# Altium footprint library SparkFun-Sensors.PCBLIB: 114 footprints (part 4 of 8)
Each footprint in its own frame and in the unit in brackets; x right, y up, seen from the top. Pads: shape width x height; smd on the part's side, far side on the other; paste and mask are expansions set on the pad; w line width, h text height; cw(c..) or ccw(c..) is an arc to the next point about the centre after c.
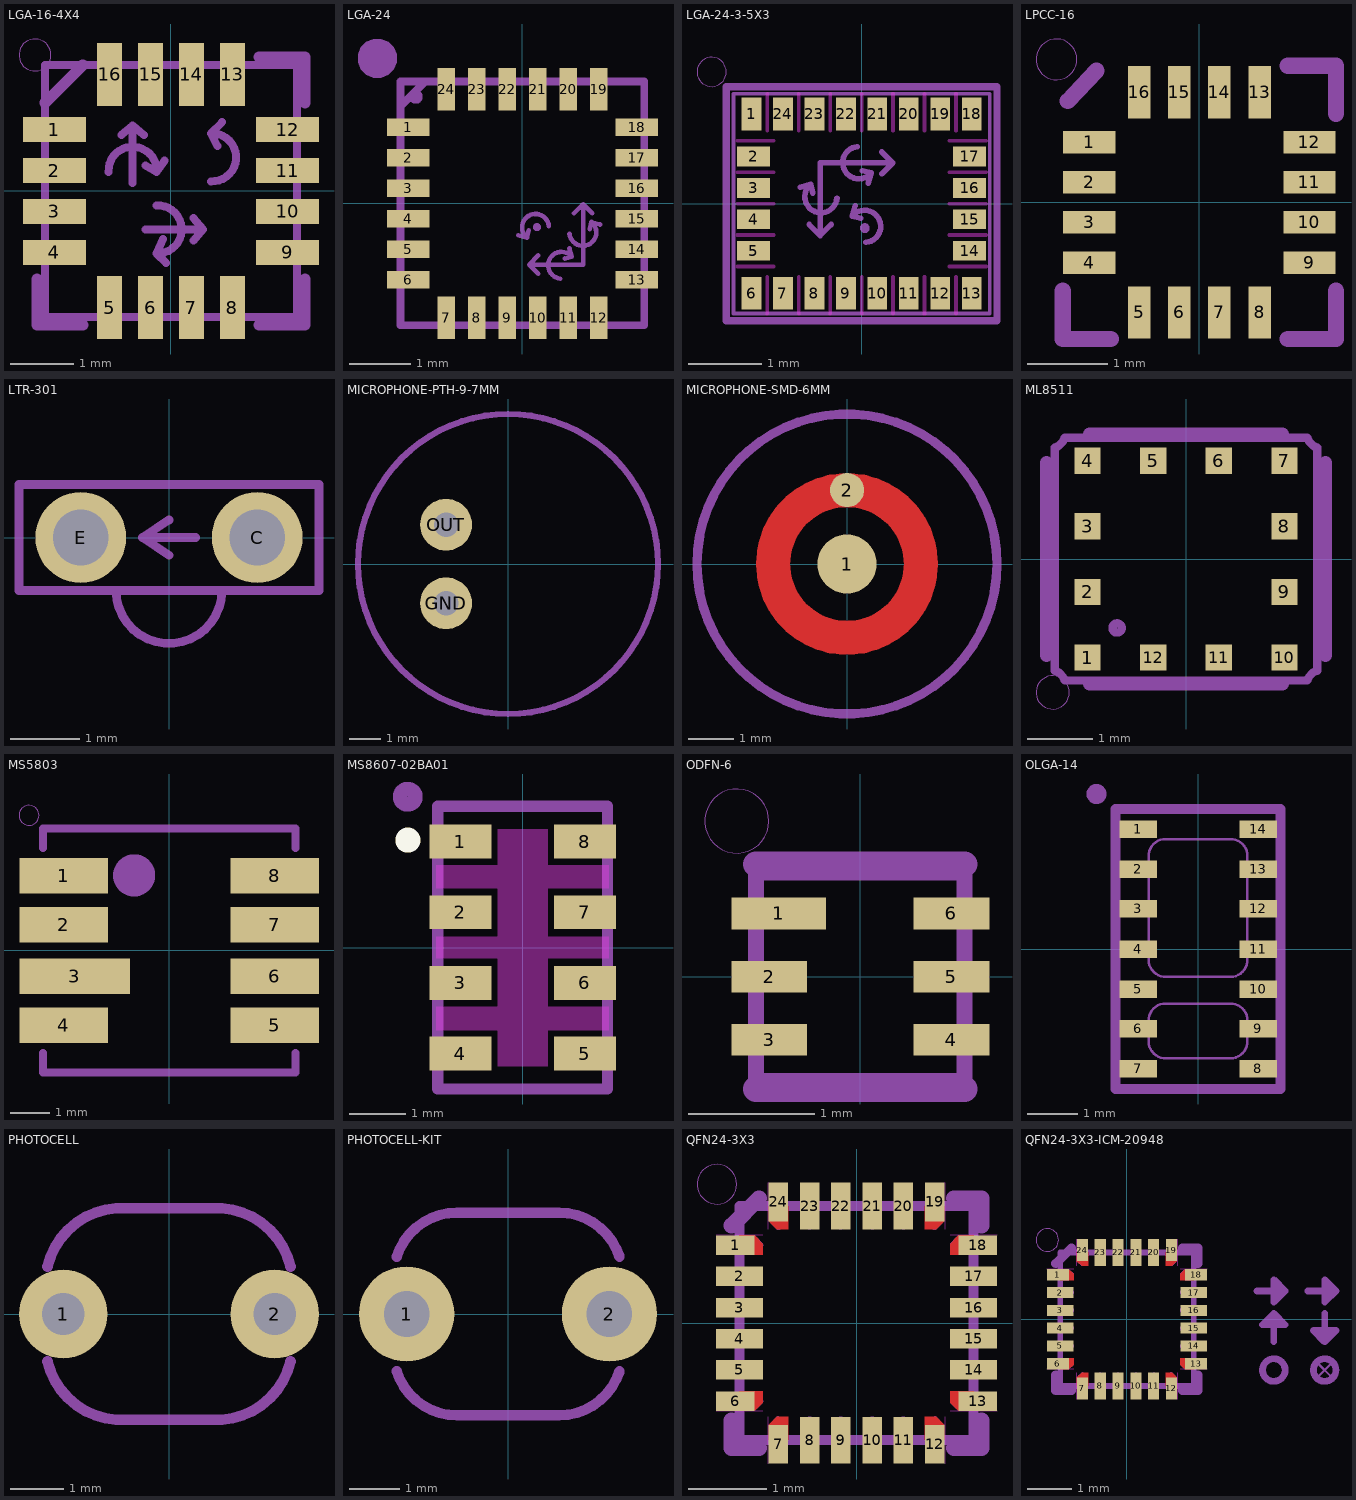
[diagram p3: the footprints below, top view; thin cyan lines are the x and y axes]

## LGA-16-4X4 [mm]
pads (16):
  rect 1x0.4 smd: 1(-1.85,0.975) 2(-1.85,0.325) 3(-1.85,-0.325) 4(-1.85,-0.975) 9(1.85,-0.975) 10(1.85,-0.325) 11(1.85,0.325) 12(1.85,0.975)
  rect 0.4x1 smd: 5(-0.975,-1.85) 6(-0.325,-1.85) 7(0.325,-1.85) 8(0.975,-1.85) 13(0.975,1.85) 14(0.325,1.85) 15(-0.325,1.85) 16(-0.975,1.85)
tDocu:
  region: -1.9,0.175 -1.9,0.475 -1.5,0.475 -1.5,0.175
  region: -1.9,-0.475 -1.9,-0.175 -1.5,-0.175 -1.5,-0.475
  region: -1.9,-1.125 -1.9,-0.825 -1.5,-0.825 -1.5,-1.125
  region: -1.9,0.825 -1.9,1.125 -1.5,1.125 -1.5,0.825
  region: -0.175,-1.9 -0.475,-1.9 -0.475,-1.5 -0.175,-1.5
  region: 0.475,-1.9 0.175,-1.9 0.175,-1.5 0.475,-1.5
  region: 1.125,-1.9 0.825,-1.9 0.825,-1.5 1.125,-1.5
  region: -0.825,-1.9 -1.125,-1.9 -1.125,-1.5 -0.825,-1.5
  region: 1.9,-0.175 1.9,-0.475 1.5,-0.475 1.5,-0.175
  region: 1.9,0.475 1.9,0.175 1.5,0.175 1.5,0.475
  region: 1.9,1.125 1.9,0.825 1.5,0.825 1.5,1.125
  region: 1.9,-0.825 1.9,-1.125 1.5,-1.125 1.5,-0.825
  region: 0.175,1.9 0.475,1.9 0.475,1.5 0.175,1.5
  region: -0.475,1.9 -0.175,1.9 -0.175,1.5 -0.475,1.5
  region: -1.125,1.9 -0.825,1.9 -0.825,1.5 -1.125,1.5
  region: 0.825,1.9 1.125,1.9 1.125,1.5 0.825,1.5
  lines w0.127: -0.991,0.305 cw(c-0.61,0.323) -0.229,0.305 ; -0.787,0.889 -0.61,1.041 ; -0.61,0.127 -0.61,1.041 ; -0.432,0.889 -0.61,1.041 ; -0.406,-0.61 0.508,-0.61 ; -0.406,0.406 -0.229,0.305 ; -0.229,-0.229 cw(c-0.211,-0.61) -0.229,-0.991 ; -0.127,-0.762 -0.229,-0.991 ; -0.102,0.483 -0.229,0.305 ; -0.076,-1.143 -0.229,-0.991 ; 0.356,-0.787 0.508,-0.61 ; 0.356,-0.432 0.508,-0.61 ; 0.635,0.152 ccw(c0.653,0.533) 0.635,0.914 ; 0.737,0.711 0.635,0.914 ; 0.813,1.092 0.635,0.914 ; -2,-2 2,-2 2,2 -2,2 -2,-2
  text "Z" at 0.33,0.33 h0.63
  text "Y" at -0.356,0.711 h0.63
  text "X" at -0.762,-0.813 h0.63
tPlace:
  circle w0: c-2.159,2.159 r0.254
  lines w0.178: -2.127,-1.4 -2.127,-2.127 -1.4,-2.127 ; -2,1.4 -1.4,2 ; 1.4,-2.127 2.127,-2.127 2.127,-1.4 ; 1.4,2.127 2.127,2.127 2.127,1.4

## LGA-24 [mm]
pads (24):
  rect 0.7x0.29 smd: 1(-1.875,1.25) 2(-1.875,0.75) 3(-1.875,0.25) 4(-1.875,-0.25) 5(-1.875,-0.75) 6(-1.875,-1.25) 13(1.875,-1.25) 14(1.875,-0.75) 15(1.875,-0.25) 16(1.875,0.25) 17(1.875,0.75) 18(1.875,1.25)
  rect 0.29x0.7 smd: 7(-1.25,-1.875) 8(-0.75,-1.875) 9(-0.25,-1.875) 10(0.25,-1.875) 11(0.75,-1.875) 12(1.25,-1.875) 19(1.25,1.875) 20(0.75,1.875) 21(0.25,1.875) 22(-0.25,1.875) 23(-0.75,1.875) 24(-1.25,1.875)
tDocu:
  circle w0.127: c-1.75,1.75 r0.05
  circle w0.076: c0.238,-0.389 r0.028
  region: -0.35,-1.9 -0.35,-1.55 -0.15,-1.55 -0.15,-1.9
  region: 0.15,-1.9 0.15,-1.55 0.35,-1.55 0.35,-1.9
  region: 0.65,-1.9 0.65,-1.55 0.85,-1.55 0.85,-1.9
  region: 1.15,-1.9 1.15,-1.55 1.35,-1.55 1.35,-1.9
  region: -0.85,-1.9 -0.85,-1.55 -0.65,-1.55 -0.65,-1.9
  region: -1.35,-1.9 -1.35,-1.55 -1.15,-1.55 -1.15,-1.9
  region: 0.35,1.9 0.35,1.55 0.15,1.55 0.15,1.9
  region: -0.15,1.9 -0.15,1.55 -0.35,1.55 -0.35,1.9
  region: -0.65,1.9 -0.65,1.55 -0.85,1.55 -0.85,1.9
  region: -1.15,1.9 -1.15,1.55 -1.35,1.55 -1.35,1.9
  region: 0.85,1.9 0.85,1.55 0.65,1.55 0.65,1.9
  region: 1.35,1.9 1.35,1.55 1.15,1.55 1.15,1.9
  region: -1.9,0.15 -1.9,0.35 -1.55,0.35 -1.55,0.15
  region: -1.9,-0.35 -1.9,-0.15 -1.55,-0.15 -1.55,-0.35
  region: -1.9,0.65 -1.9,0.85 -1.55,0.85 -1.55,0.65
  region: -1.9,1.15 -1.9,1.35 -1.55,1.35 -1.55,1.15
  region: -1.9,-0.85 -1.9,-0.65 -1.55,-0.65 -1.55,-0.85
  region: -1.9,-1.35 -1.9,-1.15 -1.55,-1.15 -1.55,-1.35
  region: 1.9,-0.15 1.9,-0.35 1.55,-0.35 1.55,-0.15
  region: 1.9,0.35 1.9,0.15 1.55,0.15 1.55,0.35
  region: 1.9,-0.65 1.9,-0.85 1.55,-0.85 1.55,-0.65
  region: 1.9,-1.15 1.9,-1.35 1.55,-1.35 1.55,-1.15
  region: 1.9,0.85 1.9,0.65 1.55,0.65 1.55,0.85
  region: 1.9,1.35 1.9,1.15 1.55,1.15 1.55,1.35
  lines w0.076: -0.066,-0.522 0.074,-0.562 ; 0.104,-0.442 0.074,-0.562 ; 0.115,-1.004 0.996,-1.004 0.996,-0.012 ; 0.262,-1.154 0.112,-1.004 0.262,-0.854 ; 0.434,-0.372 ccw(c0.215,-0.393) 0.074,-0.562 ; 0.622,-1.234 cw(c0.643,-1.015) 0.812,-0.874 ; 0.692,-0.904 0.812,-0.874 ; 0.772,-0.734 0.812,-0.874 ; 0.773,-0.496 ccw(c0.992,-0.475) 1.133,-0.306 ; 0.846,-0.162 0.996,-0.012 ; 1.103,-0.426 1.133,-0.306 ; 1.146,-0.162 0.996,-0.012 ; 1.273,-0.346 1.133,-0.306
  lines w0.127: -2,-2 -2,2 2,2 2,-2 -2,-2
  text "X" at 0.995,0.166 h0.46
  text "Y" at -0.05,-1 h0.46
  text "Z" at -0.222,-0.149 h0.46
tPlace:
  region: -2.381,2.064 -2.318,2.064 -2.201,2.112 -2.112,2.201 -2.064,2.318 -2.064,2.381 -2.064,2.444 -2.112,2.561 -2.201,2.65 -2.318,2.699 -2.381,2.699 -2.444,2.699 -2.561,2.65 -2.65,2.561 -2.699,2.444 -2.699,2.381 -2.699,2.318 -2.65,2.201 -2.561,2.112 -2.444,2.064 -2.381,2.064
  lines w0.127: -2,-1.6 -2,-2 -1.6,-2 ; -2,1.6 -1.6,2 ; 1.6,-2 2,-2 2,-1.6 ; 1.6,2 2,2 2,1.6

## LGA-24-3-5X3 [mm]
pads (24):
  rect 0.27x0.45 smd: 1(-1.505,1.225) 6(-1.505,-1.225) 7(-1.075,-1.225) 8(-0.645,-1.225) 9(-0.215,-1.225) 10(0.215,-1.225) 11(0.645,-1.225) 12(1.075,-1.225) 13(1.505,-1.225) 18(1.505,1.225) 19(1.075,1.225) 20(0.645,1.225) 21(0.215,1.225) 22(-0.215,1.225) 23(-0.645,1.225) 24(-1.075,1.225)
  rect 0.45x0.27 smd: 2(-1.475,0.645) 3(-1.475,0.215) 4(-1.475,-0.215) 5(-1.475,-0.645) 14(1.475,-0.645) 15(1.475,-0.215) 16(1.475,0.215) 17(1.475,0.645)
Top keep-out:
  lines w0.051: -1.7,-0.86 -1.2,-0.86 ; -1.7,-0.43 -1.2,-0.43 ; -1.7,0 -1.2,0 ; -1.7,0.43 -1.2,0.43 ; -1.7,0.86 -1.2,0.86 ; -1.29,-1.5 -1.29,-1 ; -1.29,1 -1.29,1.5 ; -0.86,-1.5 -0.86,-1 ; -0.86,1 -0.86,1.5 ; -0.43,-1.5 -0.43,-1 ; -0.43,1 -0.43,1.5 ; 0,-1.5 0,-1 ; 0,1 0,1.5 ; 0.43,-1.5 0.43,-1 ; 0.43,1 0.43,1.5 ; 0.86,-1.5 0.86,-1 ; 0.86,1 0.86,1.5 ; 1.2,-0.86 1.7,-0.86 ; 1.2,-0.43 1.7,-0.43 ; 1.2,0 1.7,0 ; 1.2,0.43 1.7,0.43 ; 1.2,0.86 1.7,0.86 ; 1.29,-1.5 1.29,-1 ; 1.29,1 1.29,1.5
tDocu:
  circle w0.076: c0.043,-0.334 r0.028
  region: 1.39,1.05 1.39,1.4 1.62,1.4 1.62,1.05
  region: 0.96,1.05 0.96,1.4 1.19,1.4 1.19,1.05
  region: 0.53,1.05 0.53,1.4 0.76,1.4 0.76,1.05
  region: 0.1,1.05 0.1,1.4 0.33,1.4 0.33,1.05
  region: -0.33,1.05 -0.33,1.4 -0.1,1.4 -0.1,1.05
  region: -0.76,1.05 -0.76,1.4 -0.53,1.4 -0.53,1.05
  region: -1.19,1.05 -1.19,1.4 -0.96,1.4 -0.96,1.05
  region: -1.62,1.05 -1.62,1.4 -1.39,1.4 -1.39,1.05
  region: -1.39,-1.05 -1.39,-1.4 -1.62,-1.4 -1.62,-1.05
  region: -0.96,-1.05 -0.96,-1.4 -1.19,-1.4 -1.19,-1.05
  region: -0.53,-1.05 -0.53,-1.4 -0.76,-1.4 -0.76,-1.05
  region: -0.1,-1.05 -0.1,-1.4 -0.33,-1.4 -0.33,-1.05
  region: 0.33,-1.05 0.33,-1.4 0.1,-1.4 0.1,-1.05
  region: 0.76,-1.05 0.76,-1.4 0.53,-1.4 0.53,-1.05
  region: 1.19,-1.05 1.19,-1.4 0.96,-1.4 0.96,-1.05
  region: 1.62,-1.05 1.62,-1.4 1.39,-1.4 1.39,-1.05
  region: -1.65,0.53 -1.65,0.76 -1.3,0.76 -1.3,0.53
  region: -1.65,0.1 -1.65,0.33 -1.3,0.33 -1.3,0.1
  region: -1.65,-0.33 -1.65,-0.1 -1.3,-0.1 -1.3,-0.33
  region: -1.65,-0.76 -1.65,-0.53 -1.3,-0.53 -1.3,-0.76
  region: 1.65,-0.53 1.65,-0.76 1.3,-0.76 1.3,-0.53
  region: 1.65,-0.1 1.65,-0.33 1.3,-0.33 1.3,-0.1
  region: 1.65,0.33 1.65,0.1 1.3,0.1 1.3,0.33
  region: 1.65,0.76 1.65,0.53 1.3,0.53 1.3,0.76
  lines w0.051: -1.75,-1.5 -1.75,1.5 1.75,1.5 1.75,-1.5 -1.75,-1.5
  lines w0.076: -0.837,0.225 -0.697,0.265 ; -0.717,-0.285 -0.567,-0.435 -0.417,-0.285 ; -0.667,0.145 -0.697,0.265 ; -0.567,-0.432 -0.567,0.556 0.425,0.556 ; -0.337,0.075 cw(c-0.556,0.095) -0.697,0.265 ; -0.09,-0.03 -0.13,-0.17 ; -0.059,0.78 ccw(c-0.038,0.56) 0.131,0.419 ; -0.01,-0.2 -0.13,-0.17 ; 0.011,0.449 0.131,0.419 ; 0.06,-0.53 ccw(c0.04,-0.311) -0.13,-0.17 ; 0.091,0.279 0.131,0.419 ; 0.275,0.406 0.425,0.556 ; 0.275,0.706 0.425,0.556
  text "X" at 0.603,0.557 h0.46
  text "Y" at -0.571,-0.647 h0.46
  text "Z" at 0.354,0.063 h0.46
tPlace:
  circle w0: c-2.05,1.8 r0.2
  lines w0.102: -1.85,-1.6 1.85,-1.6 1.85,1.6 -1.85,1.6 -1.85,-1.6

## LPCC-16 [mm]
pads (16):
  rect 0.65x0.28 smd: 1(-1.37,0.75) 2(-1.37,0.25) 3(-1.37,-0.25) 4(-1.37,-0.75) 9(1.37,-0.75) 10(1.37,-0.25) 11(1.37,0.25) 12(1.37,0.75)
  rect 0.28x0.65 smd: 5(-0.75,-1.37) 6(-0.25,-1.37) 7(0.25,-1.37) 8(0.75,-1.37) 13(0.75,1.37) 14(0.25,1.37) 15(-0.25,1.37) 16(-0.75,1.37)
tPlace:
  circle w0: c-1.778,1.778 r0.254
  lines w0.203: -1.7,-1.1 -1.7,-1.7 -1.1,-1.7 ; -1.635,1.26 -1.28,1.635 ; 1.1,-1.7 1.7,-1.7 1.7,-1.1 ; 1.1,1.7 1.7,1.7 1.7,1.1

## LTR-301 [mil]
pads (2):
  round 51.5 hole 31.5: C(50,0) E(-50,0)
tPlace:
  lines w5: 0,-10 -15,0 ; 0,10 -15,0 ; 15,0 -15,0 ; -30,-30 30,-30 ; -30,-30 -85,-30 -85,30 85,30 85,-30 30,-30 ; -30,-30 ccw(c0,-30) 30,-30

## MICROPHONE-PTH-9-7MM [mil]
pads (2):
  round 66 hole 31.5: GND(-78.74,-50) OUT(-78.74,50)
tPlace:
  circle w8: c0,0 r190.94
  text "-" at -54.57,-115.35 h77.5
bPlace:
  text "-" at -20.24,-115.35 h77.5

## MICROPHONE-SMD-6MM [mm]
pads (2):
  rrect100% 1.3x1.3 smd paste+0: 1(0,0)
  rrect100% 0.75x0.75 smd paste+0: 2(0.003,1.626)
Top:
  circle w0.75: c0,0 r1.625
Top Paste:
  circle w0.305: c0,0 r1.632
  circle w0.406: c0,0 r0.153
Top Solder:
  circle w0.965: c0,0 r1.627
tPlace:
  circle w0.203: c0,0 r3.3

## ML8511 [mm]
pads (12):
  rect 0.4x0.4 smd: 1(-1.5,-1.5) 2(-1.5,-0.5) 3(-1.5,0.5) 4(-1.5,1.5) 5(-0.5,1.5) 6(0.5,1.5) 7(1.5,1.5) 8(1.5,0.5) 9(1.5,-0.5) 10(1.5,-1.5) 11(0.5,-1.5) 12(-0.5,-1.5)
Top Solder:
  circle w0.2: c-1.05,-1.05 r0.05
tDocu:
  circle w0.127: c-1.05,-1.05 r0.07
  lines w0.127: -2,-1.7 -2,1.7 ccw(c-2.063,1.913) -1.85,1.85 1.85,1.85 ccw(c2.063,1.913) 2,1.7 2,-1.7 ccw(c2.063,-1.913) 1.85,-1.85 -1.85,-1.85 ccw(c-2.063,-1.913) -2,-1.7
tPlace:
  circle w0: c-2.032,-2.032 r0.254
  lines w0.203: -2.127,-1.47 -2.127,1.47 ; -1.47,-1.9 1.47,-1.9 ; -1.47,1.9 1.47,1.9 ; 2.127,-1.47 2.127,1.47

## MS5803 [mm]
pads (8):
  rect 2.25x0.9 smd: 1(-2.675,1.9) 2(-2.675,0.65) 4(-2.675,-1.9) 5(2.675,-1.9) 6(2.675,-0.65) 7(2.675,0.65) 8(2.675,1.9)
  rect 2.8x0.9 smd: 3(-2.4,-0.65)
tDocu:
  circle w0.813: c-0.889,1.905 r0.127
tPlace:
  circle w0: c-3.556,3.429 r0.254
  lines w0.203: -3.2,-2.6 -3.2,-3.1 3.2,-3.1 3.2,-2.6 ; -3.2,2.6 -3.2,3.1 3.2,3.1 3.2,2.6

## MS8607-02BA01 [mm]
pads (8):
  rect 1.1x0.6 smd: 1(-1.1,1.875) 2(-1.1,0.625) 3(-1.1,-0.625) 4(-1.1,-1.875) 5(1.1,-1.875) 6(1.1,-0.625) 7(1.1,0.625) 8(1.1,1.875)
Top keep-out:
  region: -0.445,2.095 0.445,2.095 0.445,1.46 1.524,1.46 1.524,1.048 0.445,1.048 0.445,0.191 1.524,0.191 1.524,-0.191 0.445,-0.191 0.445,-1.048 1.524,-1.048 1.524,-1.46 0.445,-1.46 0.445,-2.095 -0.445,-2.095 -0.445,-1.46 -1.524,-1.46 -1.524,-1.048 -0.445,-1.048 -0.445,-0.191 -1.524,-0.191 -1.524,0.191 -0.445,0.191 -0.445,1.048 -1.524,1.048 -1.524,1.46 -0.445,1.46
Top Overlay:
  circle w0.406: c-2.03,1.9 r0.018
tDocu:
  lines w0.2: -1.5,-2.5 1.5,-2.5 1.5,2.5 -1.5,2.5 -1.5,-2.5
tPlace:
  circle w0.254: c-2.032,2.667 r0.137
  lines w0.2: -1.5,-2.5 1.5,-2.5 ; -1.5,2.5 1.5,2.5

## ODFN-6 [mm]
pads (6):
  rect 0.75x0.25 smd: 1(-0.645,0.5)
  rect 0.6x0.25 smd: 2(-0.72,0) 3(-0.72,-0.5) 4(0.72,-0.5) 5(0.72,0) 6(0.72,0.5)
tDocu:
  lines w0.127: -0.825,-0.825 0.825,-0.825 0.825,0.825 -0.825,0.825 -0.825,-0.825
tPlace:
  circle w0: c-0.977,1.231 r0.254
  lines w0.203: -0.825,-0.888 0.825,-0.888 ; -0.825,0.888 0.825,0.888

## OLGA-14 [mm]
pads (14):
  rect 0.75x0.35 smd: 1(-1.2,2.4) 2(-1.2,1.6) 3(-1.2,0.8) 4(-1.2,0) 5(-1.2,-0.8) 6(-1.2,-1.6) 7(-1.2,-2.4) 8(1.2,-2.4) 9(1.2,-1.6) 10(1.2,-0.8) 11(1.2,0) 12(1.2,0.8) 13(1.2,1.6) 14(1.2,2.4)
tDocu:
  lines w0.05: -0.985,-1.9 -0.985,-1.39 cw(c-0.645,-1.431) -0.7,-1.093 0.69,-1.093 cw(c0.646,-1.433) 0.985,-1.38 0.985,-1.89 cw(c0.647,-1.846) 0.7,-2.183 -0.69,-2.183 cw(c-0.649,-1.845) -0.985,-1.9 ; -0.985,-0.27 -0.985,1.9 cw(c-0.644,1.859) -0.7,2.197 0.69,2.197 cw(c0.646,1.857) 0.985,1.91 0.985,-0.26 cw(c0.647,-0.217) 0.7,-0.553 -0.69,-0.553 cw(c-0.649,-0.215) -0.985,-0.27
tPlace:
  circle w0.2: c-2.032,3.1 r0.1
  lines w0.203: -1.65,-2.8 1.65,-2.8 1.65,2.8 -1.65,2.8 -1.65,-2.8

## PHOTOCELL [mil]
pads (2):
  round 66 hole 31.5: 1(-78.74,0) 2(78.74,0)
tPlace:
  lines w8: -90.55,-35.43 ccw(c-35.48,-22.25) -39.37,-78.74 39.37,-78.74 ccw(c35.48,-22.24) 90.55,-35.43 ; -90.55,35.43 cw(c-35.48,22.24) -39.37,78.74 39.37,78.74 cw(c35.48,22.25) 90.55,35.43

## PHOTOCELL-KIT [mil]
pads (2):
  round 74 hole 35.43: 1(-78.74,0) 2(78.74,0)
Top Solder:
  region: -79,-17.5 -82.4,-17.58 -88.75,-15.12 -93.67,-10.43 -96.42,-4.2 -96.5,-0.8 -96.59,2.77 -94.02,9.44 -89.1,14.61 -82.57,17.51 -79,17.6 -75.48,17.54 -69.02,14.74 -64.12,9.67 -61.54,3.12 -61.6,-0.4 -61.63,-3.83 -64.31,-10.15 -69.21,-14.96 -75.57,-17.53 -79,-17.5
  region: 79,-17.5 75.6,-17.58 69.25,-15.12 64.33,-10.43 61.58,-4.2 61.5,-0.8 61.41,2.77 63.98,9.44 68.9,14.61 75.43,17.51 79,17.6 82.52,17.54 88.98,14.74 93.88,9.67 96.46,3.12 96.4,-0.4 96.37,-3.83 93.69,-10.15 88.79,-14.96 82.43,-17.53 79,-17.5
Bottom Solder:
  region: -78.9,-37.5 -82.55,-37.55 -89.74,-36.22 -96.53,-33.51 -102.66,-29.54 -107.9,-24.44 -112.04,-18.42 -114.93,-11.7 -116.45,-4.55 -116.5,-0.9 -116.54,2.84 -115.17,10.19 -112.4,17.13 -108.32,23.39 -103.09,28.74 -96.93,32.97 -90.05,35.91 -82.74,37.46 -79,37.5 -75.26,37.45 -67.95,35.88 -61.09,32.92 -54.93,28.68 -49.72,23.31 -45.66,17.04 -42.9,10.09 -41.55,2.74 -41.6,-1 -41.64,-4.63 -43.13,-11.75 -45.99,-18.43 -50.09,-24.44 -55.29,-29.52 -61.37,-33.49 -68.12,-36.2 -75.27,-37.54 -78.9,-37.5
  region: 79.1,-37.5 75.45,-37.55 68.26,-36.22 61.47,-33.51 55.34,-29.54 50.1,-24.44 45.96,-18.42 43.07,-11.7 41.55,-4.55 41.5,-0.9 41.46,2.84 42.83,10.19 45.6,17.13 49.68,23.39 54.91,28.74 61.07,32.97 67.95,35.91 75.26,37.46 79,37.5 82.74,37.45 90.05,35.88 96.91,32.92 103.07,28.68 108.28,23.31 112.34,17.04 115.1,10.09 116.45,2.74 116.4,-1 116.36,-4.63 114.87,-11.75 112.01,-18.43 107.91,-24.44 102.71,-29.52 96.63,-33.49 89.88,-36.2 82.73,-37.54 79.1,-37.5
tPlace:
  lines w8: -86.55,-44.43 ccw(c-39.61,-29.48) -39.37,-78.74 39.37,-78.74 ccw(c39.61,-29.48) 86.55,-44.43 ; -86.55,44.43 cw(c-39.61,29.48) -39.37,78.74 39.37,78.74 cw(c39.61,29.48) 86.55,44.43

## QFN24-3X3 [mm]
pads (24):
  rect 0.495x0.25 smd paste+0: 1(-1.552,1) 6(-1.552,-1) 13(1.552,-1) 18(1.552,1)
  rect 0.6x0.25 smd paste+0: 2(-1.5,0.6) 3(-1.5,0.2) 4(-1.5,-0.2) 5(-1.5,-0.6) 14(1.5,-0.6) 15(1.5,-0.2) 16(1.5,0.2) 17(1.5,0.6)
  rect 0.25x0.495 smd paste+0: 7(-1,-1.552) 12(1,-1.552) 19(1,1.552) 24(-1,1.552)
  rect 0.25x0.6 smd paste+0: 8(-0.6,-1.5) 9(-0.2,-1.5) 10(0.2,-1.5) 11(0.6,-1.5) 20(0.6,1.5) 21(0.2,1.5) 22(-0.2,1.5) 23(-0.6,1.5)
Top:
  region: -1.5,1.125 -1.305,1.125 -1.2,1.02 -1.2,0.875 -1.5,0.875
  region: 1.125,-1.5 1.125,-1.305 1.02,-1.2 0.875,-1.2 0.875,-1.5
  region: -1.125,-1.5 -1.125,-1.305 -1.02,-1.2 -0.875,-1.2 -0.875,-1.5
  region: -1.5,-1.125 -1.305,-1.125 -1.2,-1.02 -1.2,-0.875 -1.5,-0.875
  region: 1.5,-1.125 1.305,-1.125 1.2,-1.02 1.2,-0.875 1.5,-0.875
  region: 1.5,1.125 1.305,1.125 1.2,1.02 1.2,0.875 1.5,0.875
  region: 1.125,1.5 1.125,1.305 1.02,1.2 0.875,1.2 0.875,1.5
  region: -1.125,1.5 -1.125,1.305 -1.02,1.2 -0.875,1.2 -0.875,1.5
Top keep-out:
  lines w0: -1.8,-1.13 -1.2,-1.13 ; -1.8,1.13 -1.2,1.13 ; -1.13,-1.8 -1.13,-1.2 ; -1.13,1.2 -1.13,1.8 ; 1.13,-1.8 1.13,-1.2 ; 1.13,1.2 1.13,1.8 ; 1.2,-1.13 1.8,-1.13 ; 1.2,1.13 1.8,1.13
Top Paste:
  region: -1.725,0.475 -1.725,0.725 -1.275,0.725 -1.275,0.475
  region: -1.725,0.875 -1.725,1.125 -1.275,1.125 -1.275,0.875
  region: -1.725,0.075 -1.725,0.325 -1.275,0.325 -1.275,0.075
  region: -1.725,-0.325 -1.725,-0.075 -1.275,-0.075 -1.275,-0.325
  region: -1.725,-0.725 -1.725,-0.475 -1.275,-0.475 -1.275,-0.725
  region: -1.725,-1.125 -1.725,-0.875 -1.275,-0.875 -1.275,-1.125
  region: -0.875,-1.725 -1.125,-1.725 -1.125,-1.275 -0.875,-1.275
  region: -0.475,-1.725 -0.725,-1.725 -0.725,-1.275 -0.475,-1.275
  region: -0.075,-1.725 -0.325,-1.725 -0.325,-1.275 -0.075,-1.275
  region: 0.325,-1.725 0.075,-1.725 0.075,-1.275 0.325,-1.275
  region: 0.725,-1.725 0.475,-1.725 0.475,-1.275 0.725,-1.275
  region: 1.125,-1.725 0.875,-1.725 0.875,-1.275 1.125,-1.275
  region: 1.725,-0.875 1.725,-1.125 1.275,-1.125 1.275,-0.875
  region: 1.725,-0.475 1.725,-0.725 1.275,-0.725 1.275,-0.475
  region: 1.725,0.325 1.725,0.075 1.275,0.075 1.275,0.325
  region: 1.725,-0.075 1.725,-0.325 1.275,-0.325 1.275,-0.075
  region: 1.725,0.725 1.725,0.475 1.275,0.475 1.275,0.725
  region: 1.725,1.125 1.725,0.875 1.275,0.875 1.275,1.125
  region: 0.875,1.725 1.125,1.725 1.125,1.275 0.875,1.275
  region: 0.475,1.725 0.725,1.725 0.725,1.275 0.475,1.275
  region: 0.075,1.725 0.325,1.725 0.325,1.275 0.075,1.275
  region: -0.325,1.725 -0.075,1.725 -0.075,1.275 -0.325,1.275
  region: -0.725,1.725 -0.475,1.725 -0.475,1.275 -0.725,1.275
  region: -1.125,1.725 -0.875,1.725 -0.875,1.275 -1.125,1.275
Top Solder:
  region: -1.203,0.773 -1.203,1.226 -1.099,1.226 -1.099,0.773
  region: -0.773,-1.203 -1.226,-1.203 -1.226,-1.099 -0.773,-1.099
  region: 1.203,-0.773 1.203,-1.226 1.099,-1.226 1.099,-0.773
  region: 0.773,1.203 1.226,1.203 1.226,1.099 0.773,1.099
  region: -1.226,1.203 -0.773,1.203 -0.773,1.099 -1.226,1.099
  region: -1.203,-1.226 -1.203,-0.773 -1.099,-0.773 -1.099,-1.226
  region: 1.226,-1.203 0.773,-1.203 0.773,-1.099 1.226,-1.099
  region: 1.203,1.226 1.203,0.773 1.099,0.773 1.099,1.226
tDocu:
  drawing of 28 lines, arcs and shapes, not listed
tPlace:
  circle w0: c-1.79,1.78 r0.254
  lines w0.203: -1.6,-1.25 -1.6,-1.6 -1.25,-1.6 ; -1.6,1.25 -1.25,1.6 ; 1.25,-1.6 1.6,-1.6 1.6,-1.25 ; 1.25,1.6 1.6,1.6 1.6,1.25

## QFN24-3X3-ICM-20948 [mm]
pads (24):
  rect 0.495x0.25 smd paste+0: 1(-1.552,1) 6(-1.552,-1) 13(1.552,-1) 18(1.552,1)
  rect 0.6x0.25 smd paste+0: 2(-1.5,0.6) 3(-1.5,0.2) 4(-1.5,-0.2) 5(-1.5,-0.6) 14(1.5,-0.6) 15(1.5,-0.2) 16(1.5,0.2) 17(1.5,0.6)
  rect 0.25x0.495 smd paste+0: 7(-1,-1.552) 12(1,-1.552) 19(1,1.552) 24(-1,1.552)
  rect 0.25x0.6 smd paste+0: 8(-0.6,-1.5) 9(-0.2,-1.5) 10(0.2,-1.5) 11(0.6,-1.5) 20(0.6,1.5) 21(0.2,1.5) 22(-0.2,1.5) 23(-0.6,1.5)
Top:
  region: -1.5,1.125 -1.305,1.125 -1.2,1.02 -1.2,0.875 -1.5,0.875
  region: 1.125,-1.5 1.125,-1.305 1.02,-1.2 0.875,-1.2 0.875,-1.5
  region: -1.125,-1.5 -1.125,-1.305 -1.02,-1.2 -0.875,-1.2 -0.875,-1.5
  region: -1.5,-1.125 -1.305,-1.125 -1.2,-1.02 -1.2,-0.875 -1.5,-0.875
  region: 1.5,-1.125 1.305,-1.125 1.2,-1.02 1.2,-0.875 1.5,-0.875
  region: 1.5,1.125 1.305,1.125 1.2,1.02 1.2,0.875 1.5,0.875
  region: 1.125,1.5 1.125,1.305 1.02,1.2 0.875,1.2 0.875,1.5
  region: -1.125,1.5 -1.125,1.305 -1.02,1.2 -0.875,1.2 -0.875,1.5
Top keep-out:
  lines w0: -1.8,-1.13 -1.2,-1.13 ; -1.8,1.13 -1.2,1.13 ; -1.13,-1.8 -1.13,-1.2 ; -1.13,1.2 -1.13,1.8 ; 1.13,-1.8 1.13,-1.2 ; 1.13,1.2 1.13,1.8 ; 1.2,-1.13 1.8,-1.13 ; 1.2,1.13 1.8,1.13
Top Paste:
  region: -1.725,0.475 -1.725,0.725 -1.275,0.725 -1.275,0.475
  region: -1.725,0.875 -1.725,1.125 -1.275,1.125 -1.275,0.875
  region: -1.725,0.075 -1.725,0.325 -1.275,0.325 -1.275,0.075
  region: -1.725,-0.325 -1.725,-0.075 -1.275,-0.075 -1.275,-0.325
  region: -1.725,-0.725 -1.725,-0.475 -1.275,-0.475 -1.275,-0.725
  region: -1.725,-1.125 -1.725,-0.875 -1.275,-0.875 -1.275,-1.125
  region: -0.875,-1.725 -1.125,-1.725 -1.125,-1.275 -0.875,-1.275
  region: -0.475,-1.725 -0.725,-1.725 -0.725,-1.275 -0.475,-1.275
  region: -0.075,-1.725 -0.325,-1.725 -0.325,-1.275 -0.075,-1.275
  region: 0.325,-1.725 0.075,-1.725 0.075,-1.275 0.325,-1.275
  region: 0.725,-1.725 0.475,-1.725 0.475,-1.275 0.725,-1.275
  region: 1.125,-1.725 0.875,-1.725 0.875,-1.275 1.125,-1.275
  region: 1.725,-0.875 1.725,-1.125 1.275,-1.125 1.275,-0.875
  region: 1.725,-0.475 1.725,-0.725 1.275,-0.725 1.275,-0.475
  region: 1.725,0.325 1.725,0.075 1.275,0.075 1.275,0.325
  region: 1.725,-0.075 1.725,-0.325 1.275,-0.325 1.275,-0.075
  region: 1.725,0.725 1.725,0.475 1.275,0.475 1.275,0.725
  region: 1.725,1.125 1.725,0.875 1.275,0.875 1.275,1.125
  region: 0.875,1.725 1.125,1.725 1.125,1.275 0.875,1.275
  region: 0.475,1.725 0.725,1.725 0.725,1.275 0.475,1.275
  region: 0.075,1.725 0.325,1.725 0.325,1.275 0.075,1.275
  region: -0.325,1.725 -0.075,1.725 -0.075,1.275 -0.325,1.275
  region: -0.725,1.725 -0.475,1.725 -0.475,1.275 -0.725,1.275
  region: -1.125,1.725 -0.875,1.725 -0.875,1.275 -1.125,1.275
Top Solder:
  region: -1.203,0.773 -1.203,1.226 -1.099,1.226 -1.099,0.773
  region: -0.773,-1.203 -1.226,-1.203 -1.226,-1.099 -0.773,-1.099
  region: 1.203,-0.773 1.203,-1.226 1.099,-1.226 1.099,-0.773
  region: 0.773,1.203 1.226,1.203 1.226,1.099 0.773,1.099
  region: -1.226,1.203 -0.773,1.203 -0.773,1.099 -1.226,1.099
  region: -1.203,-1.226 -1.203,-0.773 -1.099,-0.773 -1.099,-1.226
  region: 1.226,-1.203 0.773,-1.203 0.773,-1.099 1.226,-1.099
  region: 1.203,1.226 1.203,0.773 1.099,0.773 1.099,1.226
tDocu:
  drawing of 48 lines, arcs and shapes, not listed
  text "AG" at 2.921,1.143 h0.43
  text "X" at 2.286,0.381 h0.43
  text "Y" at 2.286,-0.508 h0.43
  text "Z" at 2.286,-1.397 h0.43
  text "M" at 4.318,1.143 h0.43
tPlace:
  circle w0: c-1.79,1.78 r0.254
  lines w0.203: -1.6,-1.25 -1.6,-1.6 -1.25,-1.6 ; -1.6,1.25 -1.25,1.6 ; 1.25,-1.6 1.6,-1.6 1.6,-1.25 ; 1.25,1.6 1.6,1.6 1.6,1.25